# Altium schematic symbol library TL431AIDBZR.SchLib: 1 symbol
Pins are listed as number, name and electrical type; pins without a type are passive.

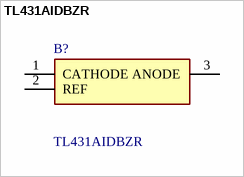
[diagram p0: symbol TL431AIDBZR]

## TL431AIDBZR
designator B?
1% Accuracy Adjustable Precision Shunt Regulator; Manufacturer_Name: Texas Instruments; Geometry.Height: 1.12mm; Mouser Part Number: 595-TL431AIDBZR; Mouser Price/Stock: https://www.mouser.co.uk/ProductDetail/Texas-Instruments/TL431AIDBZR?qs=odmYgEirbww5TG7DvnasYA%3D%3D; Manufacturer_Part_Number: TL431AIDBZR; Datasheet Link: https://datasheet.datasheetarchive.com/originals/distributors/Datasheets-SFU2/DSASFU100034171.pdf
footprint SOT95P237X112-3N
pins: 1 CATHODE, 2 REF, 3 ANODE